# EAGLE library part ICD_CONN (library netnode)
Microchip ICD2 connector Farnell: 1097917
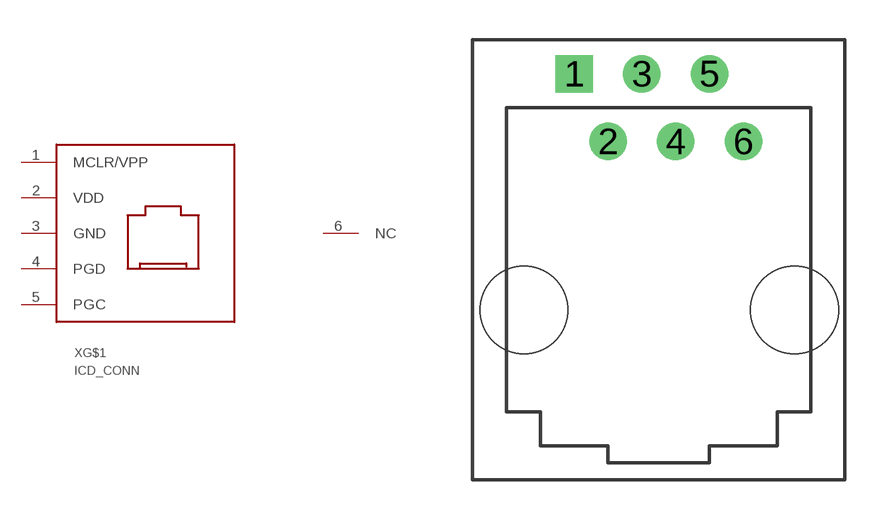
[diagram p7: symbol with the pads of RJ11; footprint RJ11]

Designator prefix X; gates G$1=ICD_CONN G$2=NC_PIN

## ICD_CONNV  [RJ11]
1  G$1:MCLR/VPP
2  G$1:VDD  pwr
3  G$1:GND  pwr
4  G$1:PGD
5  G$1:PGC
6  G$2:NC  nc

## Footprint RJ11 (pad centres in mm)
drill 0.9 square: 1 0,11.43
drill 0.9 round: 2 1.27,8.89; 3 2.54,11.43; 4 3.81,8.89; 5 5.08,11.43; 6 6.35,8.89
hole 3.3 at 8.27,2.56
hole 3.3 at -1.89,2.56